# Altium schematic symbol library ESDALC6V1W5.SchLib: 2 symbols
Pins are listed as number, name and electrical type; pins without a type are passive.

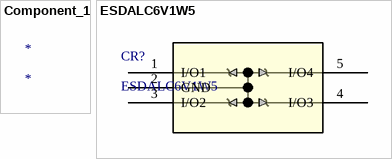
[diagram p0: symbols Component_1 to ESDALC6V1W5]

## Component_1
designator *

## ESDALC6V1W5
designator CR?
No Description Available; Mfr_Name: STMicroelectronics; Type: DEV; Copyright: Copyright (C) 2022 Ultra Librarian. All rights reserved.; Manufacturer_Part_Number: ESDALC6V1W5; RefDes: RefDes
footprint SOT323-5L_STM
pins: 1 I/O1, 2 GND, 3 I/O2, 4 I/O3, 5 I/O4